# EAGLE library part STRK11K (library poti)
Potentiometer
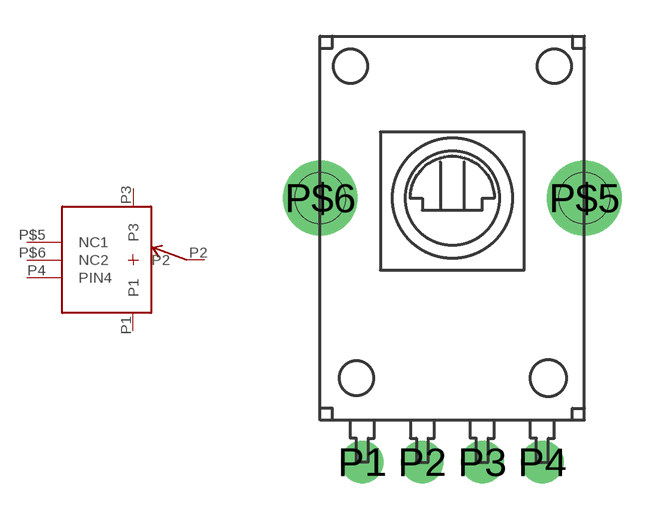
[diagram p0: symbol with the pads of VERT_POTI; footprint VERT_POTI]

Designator prefix -

## STRK11K  [VERT_POTI]
P1  P1
P2  P2
P3  P3
P4  PIN4
P$5  NC1
P$6  NC2

## Footprint VERT_POTI (pad centres in mm)
drill 1 pad 1.778: P1 -3.75,-11; P2 -1.25,-11; P3 1.25,-11; P4 3.75,-11
drill 2.1: P$5 5.5,0; P$6 -5.5,0
hole 2.1 at 5.5,0
hole 2.1 at -5.5,0